# Altium footprint library Header-2mm-1X6-M-V.PcbLib: 1 footprints
Each footprint in its own frame and in the unit in brackets; x right, y up, seen from the top. Pads: shape width x height; smd on the part's side, far side on the other; paste and mask are expansions set on the pad; w line width, h text height; cw(c..) or ccw(c..) is an arc to the next point about the centre after c.
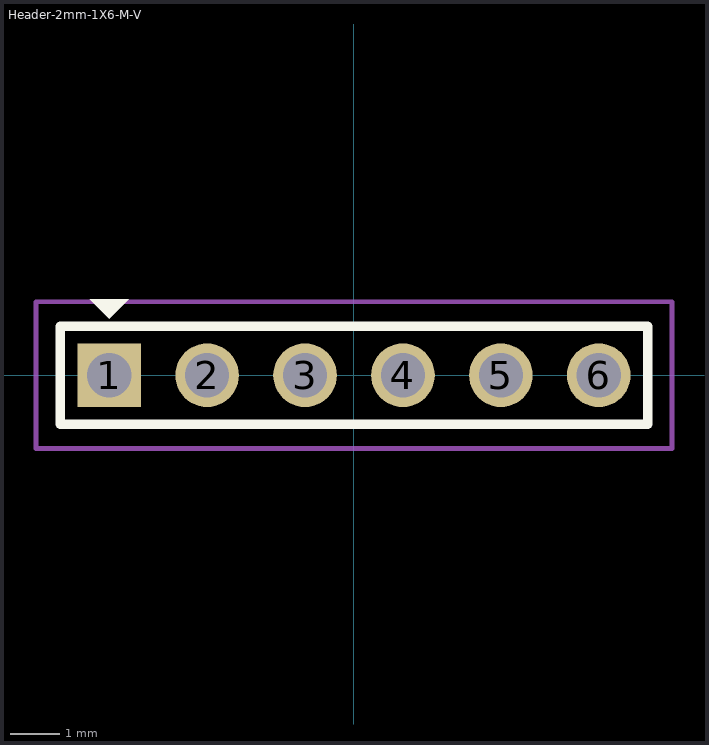
[diagram p0: the footprint, top view; thin cyan lines are the x and y axes]

## Header-2mm-1X6-M-V [mm]
pads (6):
  rect 1.3x1.3 hole 0.9: 1(-5,0)
  round 1.3 hole 0.9: 2(-3,0) 3(-1,0) 4(1,0) 5(3,0) 6(5,0)
Top Overlay:
  region: -5.4,1.55 -4.6,1.55 -5,1.15
  lines w0.2: -6,-1 -6,1 6,1 6,-1 -6,-1
Top Courtyard:
  lines w0.1: -6.5,-1.5 -6.5,1.5 6.5,1.5 6.5,-1.5 -6,-1.5 -6.5,-1.5
3D body "MTMM-106-03-F-S-150.stp": height 5.31, standoff -2.36, extent -6,-1 6,1